# Altium schematic symbol library Pads.SchLib: 7 symbols
Pins are listed as number, name and electrical type; pins without a type are passive.

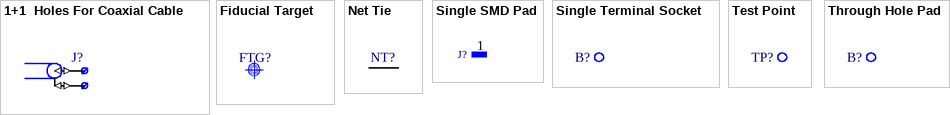
[diagram p0: symbols 1+1  Holes For Coaxial Cable to Through Hole Pad]

## 1+1  Holes For Coaxial Cable
designator J?
1+1  Holes For Coaxial Cable
pins: 1 (io), 2 (io)

## Fiducial Target
designator FTG?, comment Use only in PCB  (value not drawn)
Fiducial Target

## Net Tie
designator NT?  (net tie, no BOM)
Net Tie
pins: 1 (io), 2 (io)
1 alternate drawing of the same symbol

## Single SMD Pad
designator J?
Single SMD Pad
pins: 1 (io)

## Single Terminal Socket
designator B?
Single Terminal Socket
pins: 1 (io)

## Test Point
designator TP?
Test Point
pins: 1 (io)

## Through Hole Pad
designator B?
Through Hole Pad
pins: 1 (io)